# Altium footprint library DynamicComplexModulo_v1i1.PcbLib: 18 footprints (part 1 of 2)
Each footprint in its own frame and in the unit in brackets; x right, y up, seen from the top. Pads: shape width x height; smd on the part's side, far side on the other; paste and mask are expansions set on the pad; w line width, h text height; cw(c..) or ccw(c..) is an arc to the next point about the centre after c.
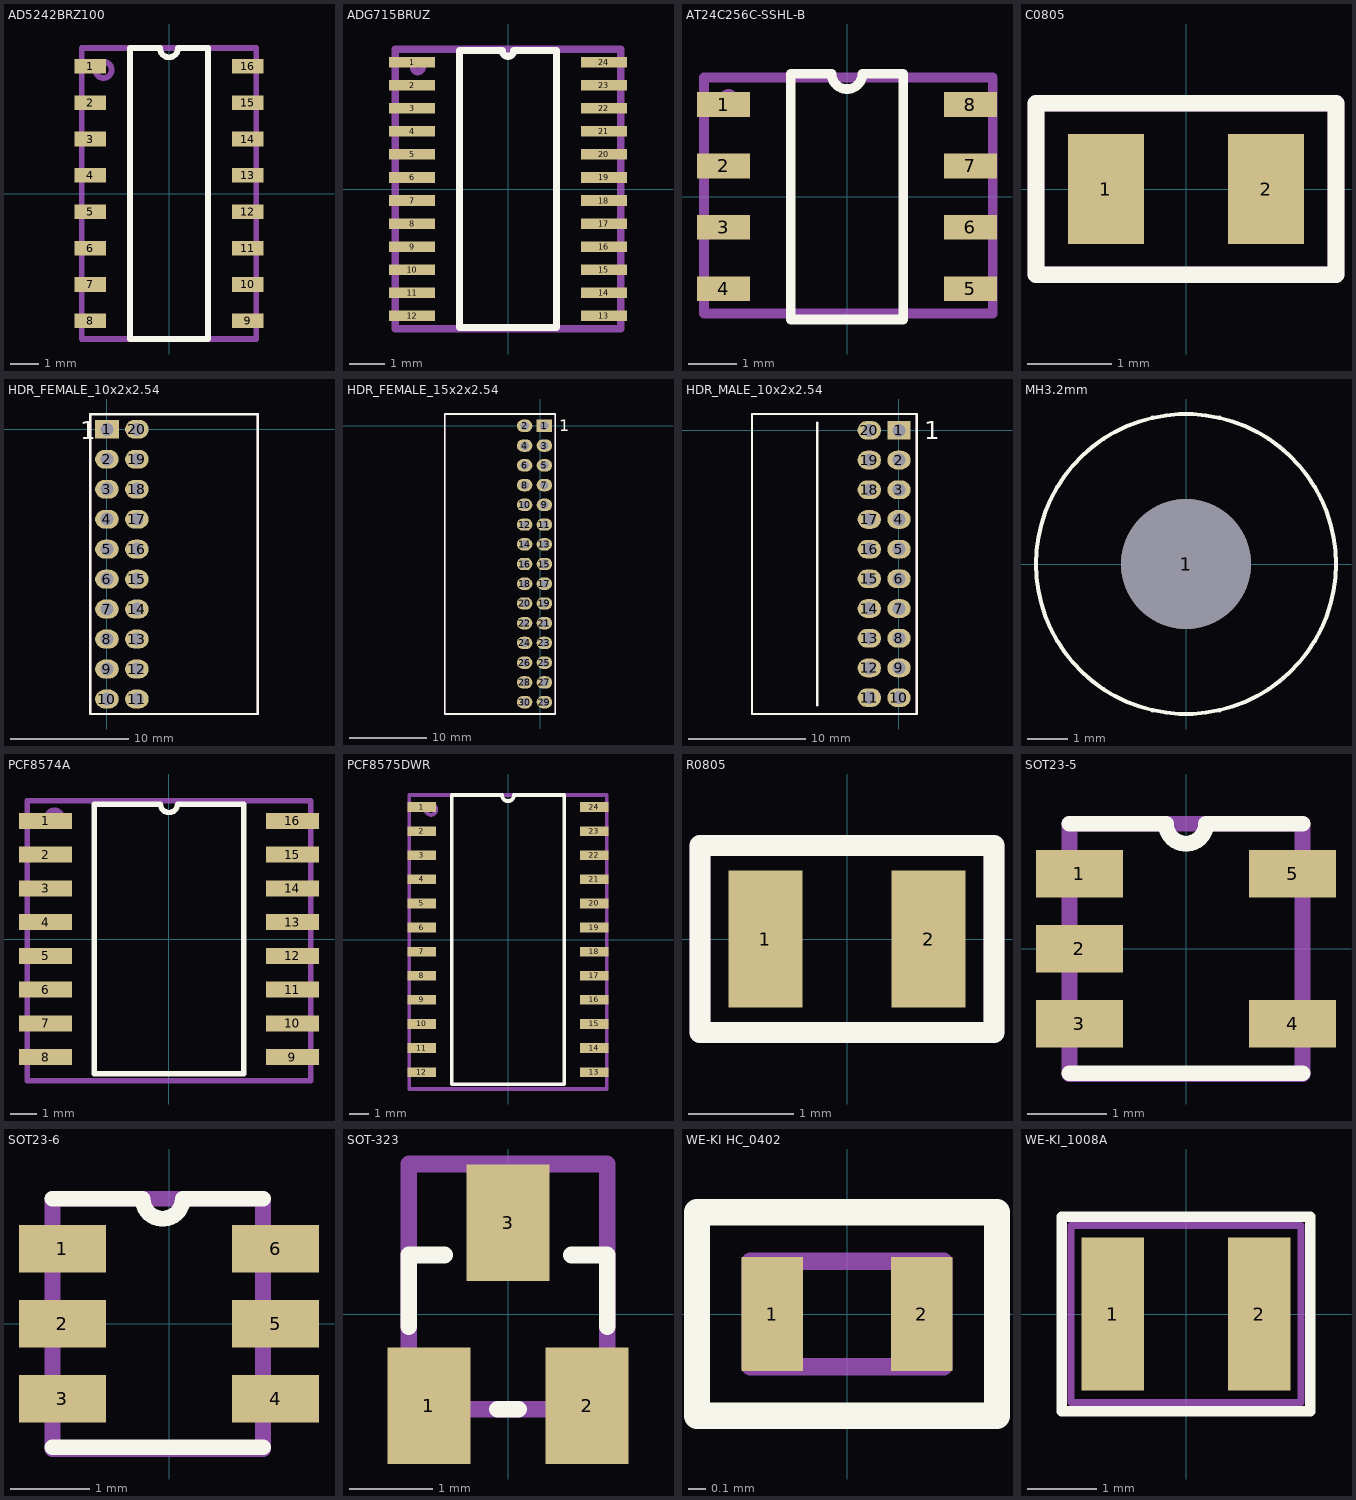
[diagram p0: the footprints below, top view; thin cyan lines are the x and y axes]

## AD5242BRZ100 [mm]
pads (16):
  rect 1.1x0.51 smd mask+0.02: 1(-2.75,4.445) 2(-2.75,3.175) 3(-2.75,1.905) 4(-2.75,0.635) 5(-2.75,-0.635) 6(-2.75,-1.905) 7(-2.75,-3.175) 8(-2.75,-4.445) 9(2.75,-4.445) 10(2.75,-3.175) 11(2.75,-1.905) 12(2.75,-0.635) 13(2.75,0.635) 14(2.75,1.905) 15(2.75,3.175) 16(2.75,4.445)
Top Overlay:
  lines w0.2: -1.365,-5.08 -1.365,5.08 -0.318,5.08 ccw(c0,5.08) 0.318,5.08 1.365,5.08 1.365,-5.08 -1.365,-5.08
Mechanical 1:
  circle w0.2: c-2.286,4.318 r0.284
  lines w0.2: -3.048,-5.08 3.048,-5.08 3.048,5.08 -3.048,5.08 -3.048,-5.08
  text "'.Designator'" at 0.635,-2.54 h1.4
3D body "so16.STEP": height 1.7, standoff 0, extent -3,-5.1 3,5.1

## ADG715BRUZ [mm]
pads (24):
  rect 1.3x0.3 smd mask+0.02: 1(-2.7,3.575) 2(-2.7,2.925) 3(-2.7,2.275) 4(-2.7,1.625) 5(-2.7,0.975) 6(-2.7,0.325) 7(-2.7,-0.325) 8(-2.7,-0.975) 9(-2.7,-1.625) 10(-2.7,-2.275) 11(-2.7,-2.925) 12(-2.7,-3.575) 13(2.7,-3.575) 14(2.7,-2.925) 15(2.7,-2.275) 16(2.7,-1.625) 17(2.7,-0.975) 18(2.7,-0.325) 19(2.7,0.325) 20(2.7,0.975) 21(2.7,1.625) 22(2.7,2.275) 23(2.7,2.925) 24(2.7,3.575)
Top Overlay:
  lines w0.2: -1.365,-3.9 -1.365,3.9 -0.162,3.9 ccw(c0,3.9) 0.162,3.9 1.365,3.9 1.365,-3.9 -1.365,-3.9
Mechanical 1:
  circle w0.2: c-2.54,3.429 r0.127
  lines w0.2: -3.175,-3.937 3.175,-3.937 3.175,3.937 -3.175,3.937 -3.175,-3.937
  text "'.Designator'" at -2.286,-1.016 h1.4
3D body "TSSOP-24.STEP": height 1.06, standoff -0.14, extent -3.2,-3.9 3.2,3.9

## AT24C256C-SSHL-B [mm]
pads (8):
  rect 1.1x0.51 smd mask+0.02: 1(-2.55,1.905) 2(-2.55,0.635) 3(-2.55,-0.635) 4(-2.55,-1.905) 5(2.55,-1.905) 6(2.55,-0.635) 7(2.55,0.635) 8(2.55,1.905)
Top Overlay:
  lines w0.2: -1.165,-2.54 1.165,-2.54 1.165,2.54 0.318,2.54 cw(c0,2.54) -0.318,2.54 -1.165,2.54 -1.165,-2.54
Mechanical 1:
  circle w0.2: c-2.448,2.032 r0.092
  lines w0.2: -2.956,-2.413 -2.956,2.464 3.013,2.464 3.013,-2.413 -2.956,-2.413
  text "'.Designator'" at -2.474,-0.533 h1.2
3D body "SOIC-8-1.STEP": height 1.75, standoff 0, extent -2.95,-2.445 3.05,2.455

## C0805 [mm]
pads (2):
  rect 0.9x1.3 smd: 1(-0.95,0) 2(0.95,0)
Top Overlay:
  lines w0.2: -1.778,-1.016 -1.778,1.016 1.778,1.016 1.778,-1.016 -1.778,-1.016
Mechanical 1:
  lines w0.2: -1.778,-1.016 1.778,-1.016 1.778,1.016 -1.778,1.016 -1.778,-1.016
  text "'.Designator'" at -0.889,-0.381 h0.7
3D body "C805.STEP": height 0.74, standoff -0.02, extent -1,-0.655 1,0.655

## HDR_FEMALE_10x2x2.54 [mm] "PPPC102LJBN-RC"
pads (20):
  rect 2x1.6 hole 1.1: 1(0,0)
  oval 2x1.6 hole 1.1: 2(0,-2.54) 3(0,-5.08) 4(0,-7.62) 5(0,-10.16) 6(0,-12.7) 7(0,-15.24) 8(0,-17.78) 9(0,-20.32) 10(0,-22.86) 11(2.54,-22.86) 12(2.54,-20.32) 13(2.54,-17.78) 14(2.54,-15.24) 15(2.54,-12.7) 16(2.54,-10.16) 17(2.54,-7.62) 18(2.54,-5.08) 19(2.54,-2.54) 20(2.54,0)
Top Overlay:
  lines w0.2: 0.635,1.27 12.776,1.27 12.776,-24.13 -1.422,-24.13 -1.422,1.27 1.905,1.27
  text "1" at -2.261,-0.838 h1.52
Mechanical 1:
  circle w1: c-0.076,-0.025 r0.025
  lines w0.2: -1.422,1.27 -1.422,-24.079 -1.372,-24.13 12.776,-24.13 12.776,1.295 -1.397,1.295
  text "'.Designator'" at 2.032,-17.755 h1.52
3D body "C102LJBN-RC.STEP": height 5.09, standoff -3.14, extent -0.076,-24.431 12.764,1.469

## HDR_FEMALE_15x2x2.54 [mm]
pads (30):
  rect 2x1.6 hole 1.1: 1(0.508,0)
  oval 2x1.6 hole 1.1: 2(-2.032,0) 3(0.508,-2.54) 4(-2.032,-2.54) 5(0.508,-5.08) 6(-2.032,-5.08) 7(0.508,-7.62) 8(-2.032,-7.62) 9(0.508,-10.16) 10(-2.032,-10.16) 11(0.508,-12.7) 12(-2.032,-12.7) 13(0.508,-15.24) 14(-2.032,-15.24) 15(0.508,-17.78) 16(-2.032,-17.78) 17(0.508,-20.32) 18(-2.032,-20.32) 19(0.508,-22.86) 20(-2.032,-22.86) 21(0.508,-25.4) 22(-2.032,-25.4) 23(0.508,-27.94) 24(-2.032,-27.94) 25(0.508,-30.48) 26(-2.032,-30.48) 27(0.508,-33.02) 28(-2.032,-33.02) 29(0.508,-35.56) 30(-2.032,-35.56)
Top Overlay:
  lines w0.2: -12.319,-37.084 1.905,-37.084 1.905,1.524 -12.319,1.524 -12.319,-37.084
  text "1" at 2.438,-0.711 h1.52
Mechanical 1:
  circle w0.2: c0.508,0 r0.359
  lines w0.2: -12.319,-37.084 1.905,-37.084 1.905,1.524 -12.319,1.524 -12.319,-37.084
  text "'.Designator'" at -6.096,-26.416 h2
3D body "C152LJBN-RC.STEP": height 5.08, standoff -3.15, extent -12.135,-37.084 0.705,1.516

## HDR_MALE_10x2x2.54 [mm] "PRPC010DBAN-M71RC"
pads (20):
  rect 2x1.6 hole 1.1: 1(0,0)
  oval 2x1.6 hole 1.1: 2(0,-2.54) 4(0,-7.62) 5(0,-10.16) 6(0,-12.7) 7(0,-15.24) 8(0,-17.78) 9(0,-20.32) 10(0,-22.86) 11(-2.54,-22.86) 12(-2.54,-20.32) 13(-2.54,-17.78) 14(-2.54,-15.24) 15(-2.54,-12.7) 16(-2.54,-10.16) 17(-2.54,-7.62) 19(-2.54,-2.54) 20(-2.54,0)
  oval 2x1.6 hole 1.1 mask+0.102: 3(0,-5.08) 18(-2.54,-5.08)
Top Overlay:
  lines w0.2: -6.985,-23.495 -6.985,0.635 ; -12.573,-24.257 1.524,-24.257 1.524,1.397 -12.573,1.397 -12.573,-24.257
  text "1" at 2.159,-0.762 h1.52
Mechanical 1:
  circle w0.2: c0.127,0.127 r0.284
  lines w0.2: -12.573,-24.257 -12.573,1.397 ; -12.573,-24.257 0.127,-24.257 1.524,-24.257 ; -12.573,-24.257 -12.573,1.397 ; -12.573,-24.257 1.524,-24.257 ; -12.573,1.397 1.524,1.397 ; -12.573,1.397 1.524,1.397 ; 1.524,-24.257 1.524,1.397 ; 1.524,-24.257 1.524,1.397
  text "'.Designator'" at -6.604,-17.907 h1.52
3D body "C010DBAN-M71RC.STEP": height 5.45, standoff -2.6, extent -12.466,-24.105 0.254,1.295

## MH3.2mm [mm] "MHNP 3.2mm"
pads (1):
  round 3.2 hole 3.2 unplated: 1(0,0)
Top Overlay:
  circle w0.1: c0,0 r3.7

## PCF8574A [mm]
pads (16):
  rect 2x0.6 smd mask+0.02: 1(-4.65,4.445) 2(-4.65,3.175) 3(-4.65,1.905) 4(-4.65,0.635) 5(-4.65,-0.635) 6(-4.65,-1.905) 7(-4.65,-3.175) 8(-4.65,-4.445) 9(4.65,-4.445) 10(4.65,-3.175) 11(4.65,-1.905) 12(4.65,-0.635) 13(4.65,0.635) 14(4.65,1.905) 15(4.65,3.175) 16(4.65,4.445)
Top Overlay:
  lines w0.2: -2.815,-5.08 -2.815,5.08 -0.318,5.08 ccw(c0,5.08) 0.318,5.08 2.815,5.08 2.815,-5.08 -2.815,-5.08
Mechanical 1:
  circle w0.2: c-4.318,4.572 r0.284
  lines w0.2: -5.334,-5.334 5.334,-5.334 5.334,5.207 -5.334,5.207 -5.334,-5.334
  text "'.Designator'" at -2.159,-0.381 h1.4
3D body "SOIC16_Wide_JEDEC_MS-013AA.STEP": height 2.56, standoff -0.09, extent -5.315,-5.25 5.315,5.25

## PCF8575DWR [mm]
pads (24):
  rect 1.5x0.51 smd mask+0.02: 1(-4.555,6.985) 2(-4.555,5.715) 3(-4.555,4.445) 4(-4.555,3.175) 5(-4.555,1.905) 6(-4.555,0.635) 7(-4.555,-0.635) 8(-4.555,-1.905) 9(-4.555,-3.175) 10(-4.555,-4.445) 11(-4.555,-5.715) 12(-4.555,-6.985) 13(4.555,-6.985) 14(4.555,-5.715) 15(4.555,-4.445) 16(4.555,-3.175) 17(4.555,-1.905) 18(4.555,-0.635) 19(4.555,0.635) 20(4.555,1.905) 21(4.555,3.175) 22(4.555,4.445) 23(4.555,5.715) 24(4.555,6.985)
Top Overlay:
  lines w0.2: -2.97,-7.62 -2.97,7.62 -0.318,7.62 ccw(c0,7.62) 0.318,7.62 2.97,7.62 2.97,-7.62 -2.97,-7.62
Mechanical 1:
  circle w0.2: c-4.064,6.858 r0.284
  lines w0.2: -5.207,-7.874 5.207,-7.874 5.207,7.62 -5.207,7.62 -5.207,-7.874
  text "'.Designator'" at -0.889,-0.381 h1.4
3D body "SOIC_24-300.STEP": height 2.6, standoff 0, extent -5.193,-7.827 5.207,7.573

## R0805 [mm]
pads (2):
  rect 0.7x1.3 smd: 1(-0.775,0) 2(0.775,0)
Top Overlay:
  lines w0.2: -1.397,-0.889 -1.397,0.889 1.397,0.889 1.397,-0.889 -1.397,-0.889
Mechanical 1:
  lines w0.2: -1.397,-0.889 -1.397,0.889 1.397,0.889 1.397,-0.889 -1.397,-0.889
  text "'.Designator'" at -0.635,-0.254 h0.7
3D body "RES_2013-0805.step": height 0.77, standoff 0.01, extent -1.15,-0.675 1.15,0.675

## SOT23-5 [mm]
pads (5):
  rect 1.1x0.6 smd mask+0.02: 1(-1.35,0.95) 2(-1.35,0) 3(-1.35,-0.95) 4(1.35,-0.95) 5(1.35,0.95)
Top Overlay:
  lines w0.2: -1.477,-1.575 1.477,-1.575 ; -1.477,1.585 -0.254,1.585 ccw(c0,1.585) 0.254,1.585 1.477,1.585
Mechanical 1:
  lines w0.2: -1.477,-1.59 1.477,-1.59 1.477,1.585 -1.477,1.585 -1.477,-1.59
  text "'.Designator'" at -0.762,-0.254 h0.8
3D body "SOT23-5.STEP": height 1.45, standoff 0, extent -1.4,-1.45 1.4,1.45

## SOT23-6 [mm]
pads (6):
  rect 1.1x0.6 smd mask+0.02: 1(-1.35,0.95) 2(-1.35,0) 3(-1.35,-0.95) 4(1.35,-0.95) 5(1.35,0) 6(1.35,0.95)
Top Overlay:
  lines w0.2: -1.477,-1.565 1.19,-1.565 ; -1.477,1.585 -0.334,1.585 ccw(c-0.08,1.585) 0.174,1.585 1.19,1.585
Mechanical 1:
  lines w0.2: -1.477,-1.59 -1.477,1.585 1.19,1.585 1.19,-1.59 -1.477,-1.59
  text "'.Designator'" at -1.096,-0.447 h0.8
3D body "SOT23-6-2.STEP": height 1.45, standoff 0, extent -1.531,-1.44 1.269,1.46

## SOT-323 [mm]
pads (3):
  rect 1x1.4 smd: 1(-0.95,-1.1) 2(0.95,-1.1) 3(0,1.1)
Top Overlay:
  lines w0.2: -1.194,-0.152 -1.194,0.711 -0.762,0.711 ; -0.127,-1.143 0.127,-1.143 ; 0.762,0.711 1.194,0.711 1.194,-0.152
Mechanical 1:
  lines w0.2: -1.194,-1.143 -1.194,1.803 1.194,1.803 1.194,-1.143 -1.194,-1.143
  text "'.Designator'" at -0.635,-0.127 h0.5
3D body "sot-323.step": height 1, standoff 0, extent -1.05,-1.15 1.05,1.15

## WE-KI HC_0402 [mm] "SMD Inductor, size 0402"
height 0.6
pads (2):
  rect 0.35x0.65 smd: 1(-0.425,0) 2(0.425,0)
Top Overlay:
  lines w0.15: -0.854,-0.579 0.854,-0.579 0.854,0.579 -0.854,0.579 -0.854,-0.579
Mechanical 1:
  lines w0.1: -0.55,-0.3 -0.55,0.3 0.55,0.3 0.55,-0.3 -0.55,-0.3
  text "'.Designator'" at -0.4,-0.2 h0.3
3D body "744916xxx.stp": height 0.56, standoff -0.01, extent -0.55,-0.3 0.55,0.3

## WE-KI_1008A [mm] "SMD Wire Wound Ceramic Inductor, body 2.5x2"
height 1.6
pads (2):
  rect 0.9x2.2 smd: 1(-1.05,0) 2(1.05,0)
Top Overlay:
  lines w0.15: -1.778,-1.397 -1.778,1.397 1.778,1.397 1.778,-1.397 -1.778,-1.397
Mechanical 1:
  lines w0.1: -1.651,-1.27 -1.651,1.27 1.651,1.27 1.651,-1.27 -1.651,-1.27
  text ".Designator" at -2.413,-0.762 h0.8
3D body "1008A_744762112A.stp": height 1.12, standoff -0.01, extent -1.25,-1.002 1.25,1.003